# Altium schematic symbol library 691 253 900 0xx.SchLib: 2 symbols
Pins are listed as number, name and electrical type; pins without a type are passive.

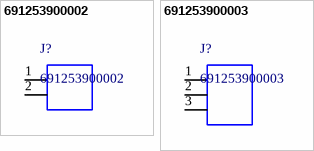
[diagram p0: symbols 691253900002 to 691253900003]

## 691253900002
designator J?
WR-TBL Vertical Cable Entry With Rising Cage Clamp,Serie 2539 - 7.50 mm; Manufacturer: Wurth Elektronik; ComponentLink1 Description: Manufacturer; ComponentLink2 Description: Datasheet; ComponentLink1URL: http://www.we-online.de; ComponentLink2URL: http://katalog.we-online.de/em/datasheet/6912539000XX.pdf; Created by: Baojun Chen; Created Date: 15.Sep.2015; partNo: 691253900002
footprint 691253900002 (Serie 2539 - 7.50 mm _ 2 pins)
pins: 1, 2

## 691253900003
designator J?
WR-TBL Vertical Cable Entry With Rising Cage Clamp,Serie 2539 - 7.50 mm; Manufacturer: Wurth Elektronik; ComponentLink1 Description: Manufacturer; ComponentLink2 Description: Datasheet; ComponentLink1URL: http://www.we-online.de; ComponentLink2URL: http://katalog.we-online.de/em/datasheet/6912539000XX.pdf; Created by: Baojun Chen; Created Date: 15.Sep.2015; partNo: 691253900003
footprint 691253900003 (Serie 2539 - 7.50 mm _ 3 pins)
pins: 1, 2, 3